# EAGLE library part IR2104 (library equinox)
Half Bridge mosfet - IGBT driver
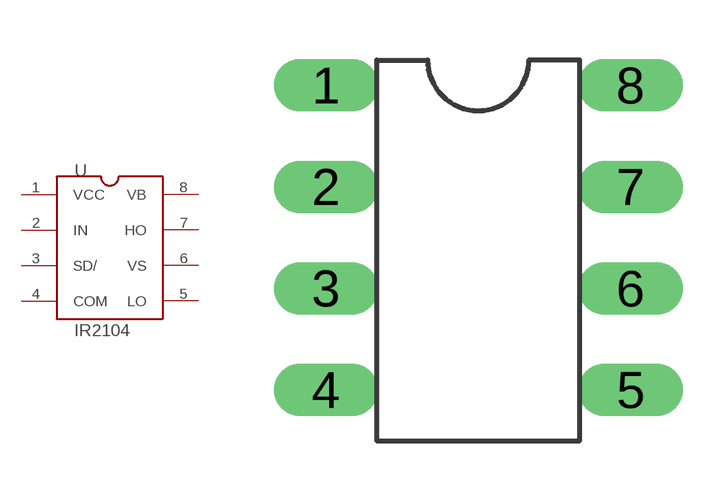
[diagram p4: symbol with the pads of IR2104; footprint IR2104]

Designator prefix -

## IR2104  [IR2104]
1  VCC  pwr
2  IN
3  SD/
4  COM
5  LO
6  VS  pwr
7  HO
8  VB  pwr

## Footprint IR2104 (pad centres in mm)
drill 0.8 long: 1 -1.905,8.89; 2 -1.905,6.35; 3 -1.905,3.81; 4 -1.905,1.27; 5 5.715,1.27; 6 5.715,3.81; 7 5.715,6.35; 8 5.715,8.89